# Altium schematic symbol library LTC2863.SchLib: 1 symbol
Pins are listed as number, name and electrical type; pins without a type are passive.

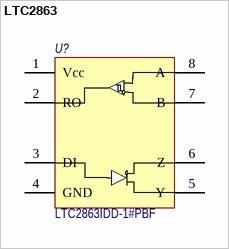
[diagram p0: symbol LTC2863]

## LTC2863
designator U?, comment LTC2863IDD-1#PBF
3.3 V Slew Rate Limited, Full-Duplex, RS-422 Transceiver; Потребление, Вт: 0,001; Наименование: LTC2863; Назначение: RS-422 Transceiver; Value: LTC2863IDD-1#PBF
footprint SOIC-8
footprint 8-DFN_3x3 (DFN, 8-Leads, Body 3,00x3,00mm, Pitch 0,50mm, Thermal Pad 2,38x1,49mm, IPC Medium Density)
pins: 1 Vcc, 2 RO, 3 DI, 4 GND, 5 Y (power), 6 Z, 7 B, 8 A (power)